# EAGLE library part TLC59401PWPR (library MotherboardParts)
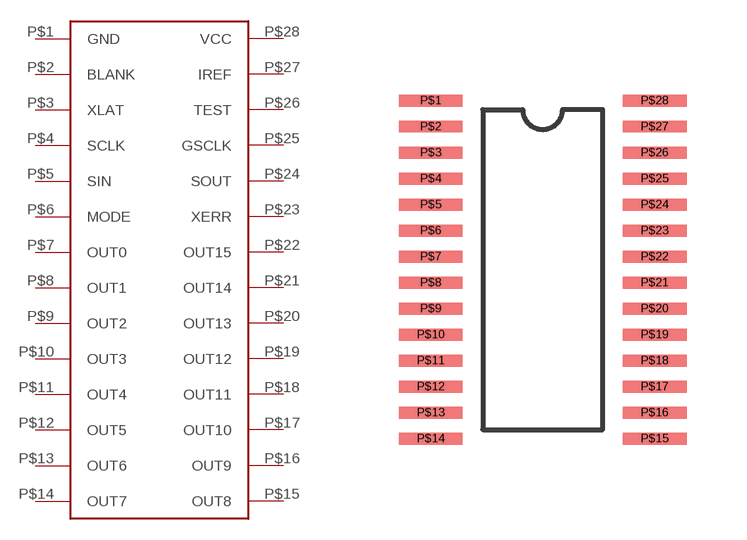
[diagram p0: symbol with the pads of TLC59401PWPR; footprint TLC59401PWPR]

Designator prefix -

## TLC59401PWPR  [TLC59401PWPR]
P$1  GND
P$2  BLANK
P$3  XLAT
P$4  SCLK
P$5  SIN
P$6  MODE
P$7  OUT0
P$8  OUT1
P$9  OUT2
P$10  OUT3
P$11  OUT4
P$12  OUT5
P$13  OUT6
P$14  OUT7
P$15  OUT8
P$16  OUT9
P$17  OUT10
P$18  OUT11
P$19  OUT12
P$20  OUT13
P$21  OUT14
P$22  OUT15
P$23  XERR
P$24  SOUT
P$25  GSCLK
P$26  TEST
P$27  IREF
P$28  VCC

## Footprint TLC59401PWPR (pad centres in mm)
smd 1.6 x 0.3: P$1 -2.8,4.225; P$2 -2.8,3.575; P$3 -2.8,2.925; P$4 -2.8,2.275; P$5 -2.8,1.625; P$6 -2.8,0.975; P$7 -2.8,0.325; P$8 -2.8,-0.325; P$9 -2.8,-0.975; P$10 -2.8,-1.625; P$11 -2.8,-2.275; P$12 -2.8,-2.925; P$13 -2.8,-3.575; P$14 -2.8,-4.225; P$15 2.8,-4.225; P$16 2.8,-3.575; P$17 2.8,-2.925; P$18 2.8,-2.275; P$19 2.8,-1.625; P$20 2.8,-0.975; P$21 2.8,-0.325; P$22 2.8,0.325; P$23 2.8,0.975; P$24 2.8,1.625; P$25 2.8,2.275; P$26 2.8,2.925; P$27 2.8,3.575; P$28 2.8,4.225